# Altium footprint library RF_Antenna.PcbLib: 18 footprints (part 2 of 2)
Each footprint in its own frame and in the unit in brackets; x right, y up, seen from the top. Pads: shape width x height; smd on the part's side, far side on the other; paste and mask are expansions set on the pad; w line width, h text height; cw(c..) or ccw(c..) is an arc to the next point about the centre after c.
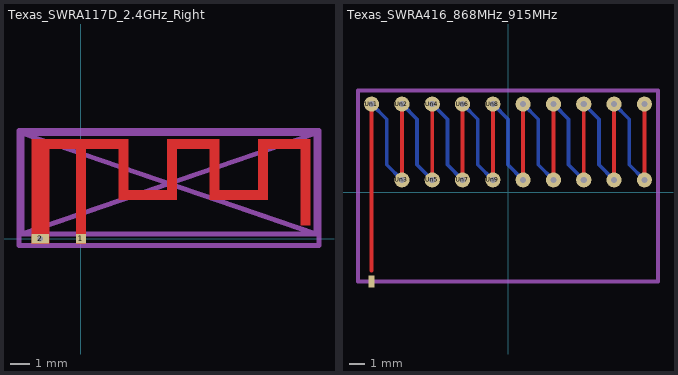
[diagram p1: the footprints below, top view; thin cyan lines are the x and y axes]

## Texas_SWRA117D_2.4GHz_Right [mm]
pads (2):
  rect 0.5x0.5 smd: 1(0,0)
  rect 0.9x0.5 hole 0.3: 2(-2.1,0)
F.Cu:
  region: 11.85,0.71 11.35,0.71 11.35,4.65 9.65,4.65 9.65,2.01 6.65,2.01 6.65,4.65 4.95,4.65 4.95,2.01 1.95,2.01 1.95,4.65 0.25,4.65 0.25,-0.25 -0.25,-0.25 -0.25,4.65 -1.65,4.65 -1.65,-0.25 -2.55,-0.25 -2.55,-0.007 -2.55,5.15 2.45,5.15 2.45,2.51 4.45,2.51 4.45,5.15 7.15,5.15 7.15,2.51 9.15,2.51 9.15,5.15 11.85,5.15 hole: -2.107,0.148 -2.155,0.14 -2.188,0.123 -2.223,0.086 -2.243,0.042 -2.248,-0.007 -2.238,-0.054 -2.214,-0.097 -2.176,-0.13 -2.168,-0.134 -2.125,-0.146 -2.077,-0.145 -2.031,-0.132 -2.013,-0.122 -1.979,-0.087 -1.958,-0.041 -1.952,0.008 -1.96,0.056 -1.977,0.089 -2.012,0.121 -2.058,0.141
F.Fab:
  lines w0.254: -3.2,-0.35 -3.2,5.6 12.3,5.6 12.3,-0.35 -3.2,-0.35
  text "'.Designator'" at 0.503,5.56 h1
F.CrtYd:
  lines w0.254: -3.2,-0.35 -3.2,5.6 12.3,5.6 12.3,-0.35 -3.2,-0.35
Dwgs.User:
  lines w0.254: -3.05,0.25 -3.05,5.45 ; -3.05,0.25 12.15,5.45 ; -3.05,0.25 12.15,0.25 ; -3.05,5.45 12.15,5.45 ; -3.05,5.45 12.15,0.25 ; 12.15,0.25 12.15,5.45

## Texas_SWRA416_868MHz_915MHz [mm]
pads (20):
  rect 0.4x0.8 smd: 1(-9,-5.9)
  round 1 hole 0.4: Un1(-9,5.8) Un2(-7,5.8) Un3(-7,0.8) Un4(-5,5.8) Un5(-5,0.8) Un6(-3,5.8) Un7(-3,0.8) Un8(-1,5.8) Un9(-1,0.8) Un10(1,5.8) Un11(1,0.8) Un12(3,5.8) Un13(3,0.8) Un14(5,5.8) Un15(5,0.8) Un16(7,5.8) Un17(7,0.8) Un18(9,5.8) Un19(9,0.8)
F.Cu:
  lines w0.254: -9,-5.2 -9,5.8 ; -7,0.8 -7,5.8 ; -5,0.8 -5,5.8 ; -3,0.8 -3,5.8 ; -1,0.8 -1,5.8 ; 1,0.8 1,5.8 ; 3,0.8 3,5.8 ; 5,0.8 5,5.8 ; 7,0.8 7,5.8 ; 9,0.8 9,5.8
B.Cu:
  lines w0.254: -9,5.8 -8,4.8 -8,1.8 -7,0.8 ; -7,5.8 -6,4.8 -6,1.8 -5,0.8 ; -5,5.8 -4,4.8 -4,1.8 -3,0.8 ; -3,5.8 -2,4.8 -2,1.8 -1,0.8 ; -1,5.8 0,4.8 0,1.8 1,0.8 ; 1,5.8 2,4.8 2,1.8 3,0.8 ; 3,5.8 4,4.8 4,1.8 5,0.8 ; 5,5.8 6,4.8 6,1.8 7,0.8 ; 7,5.8 8,4.8 8,1.8 9,0.8
F.Fab:
  text "'.Designator'" at -4.447,-7.44 h1
F.CrtYd:
  lines w0.254: -9.9,-5.9 -9.9,6.7 9.9,6.7 9.9,-5.9 -9.9,-5.9
B.CrtYd:
  lines w0.254: -9.9,-5.9 -9.9,6.7 9.9,6.7 9.9,-5.9 -9.9,-5.9
Cmts.User:
  text "any PCB layer." at -4.513,-5.017 h1
  text "KEEP-OUT ZONE" at -4.88,2.15 h1
  text "No metal, traces or" at -6.268,-0.945 h1
  text "any components on" at -5.932,-3.017 h1